# Altium footprint library SM01.PcbLib: 12 footprints
Each footprint in its own frame and in the unit in brackets; x right, y up, seen from the top. Pads: shape width x height; smd on the part's side, far side on the other; paste and mask are expansions set on the pad; w line width, h text height; cw(c..) or ccw(c..) is an arc to the next point about the centre after c.
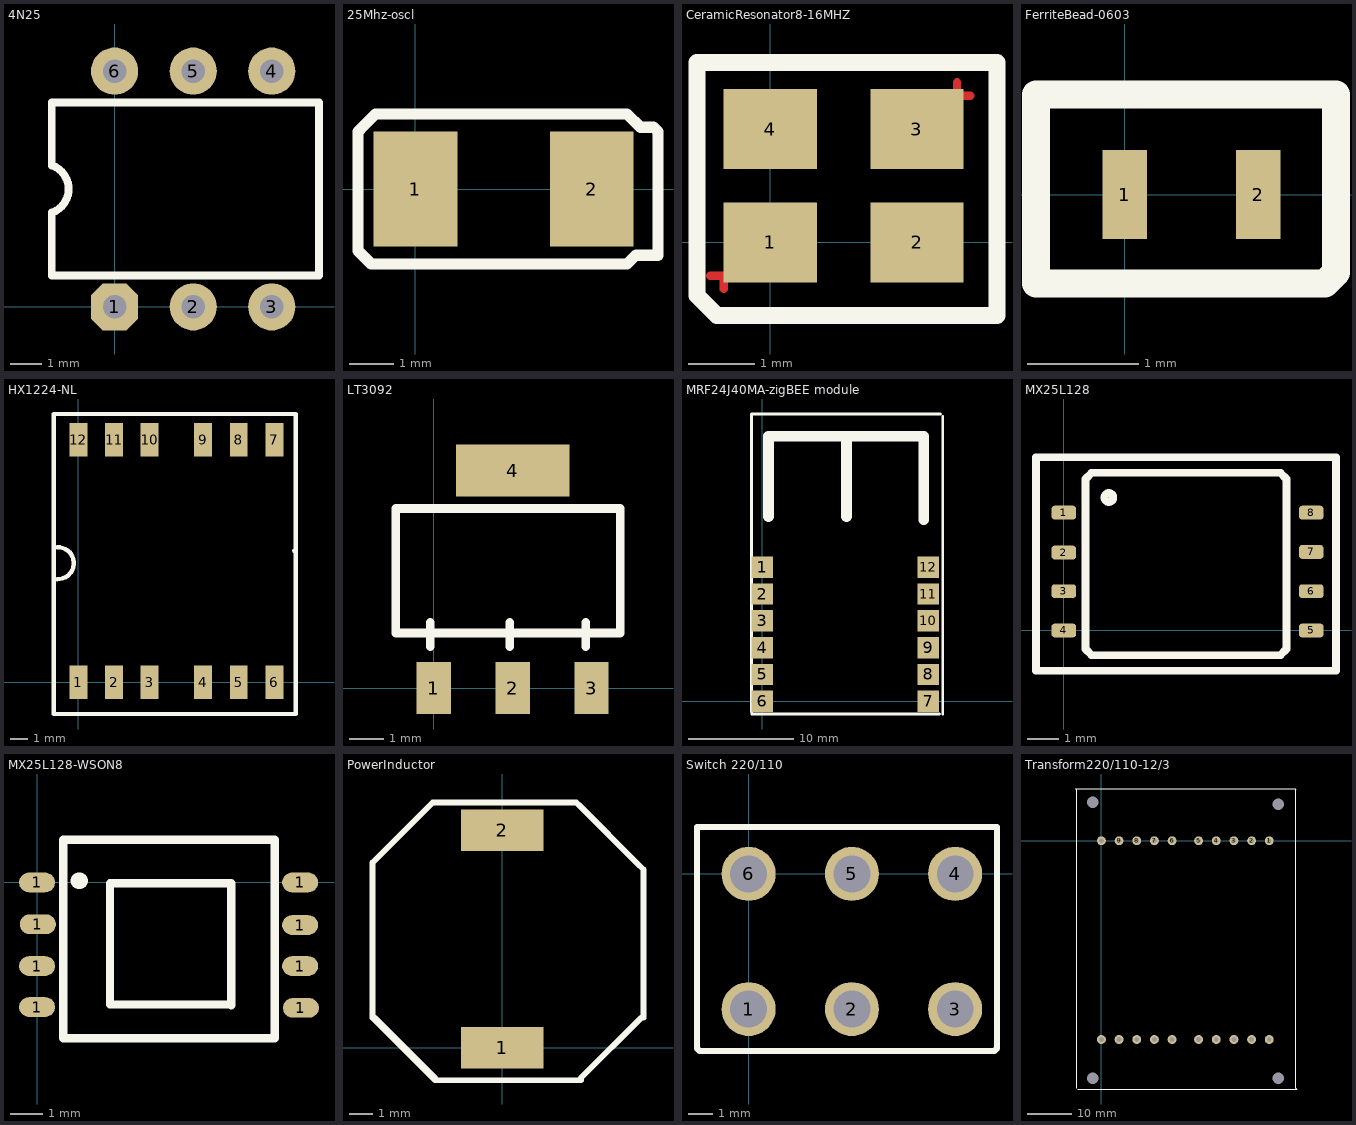
[diagram p0: the footprints below, top view; thin cyan lines are the x and y axes]

## 4N25 [mil]
pads (6):
  oct 60x60 hole 30: 1(0,0)
  round 60 hole 30: 2(100,0) 3(200,0) 4(200,300) 5(100,300) 6(0,300)
Top Overlay:
  lines w10: -80,40 -80,120 ccw(c-90,150) -80,180 -80,260 260,260 260,40 -80,40

## 25Mhz-oscl [mm]
pads (2):
  rect 1.9x2.6 smd: 1(0,0) 2(4,0)
Top Overlay:
  lines w0.254: -1.3,-1.4 -1.3,1.3 -1.25,1.35 -0.9,1.7 4.8,1.7 5.1,1.4 5.4,1.4 5.5,1.3 5.5,-1.5 5,-1.5 4.8,-1.7 -1,-1.7 -1.3,-1.4

## CeramicResonator8-16MHZ [mm]
pads (4):
  rect 1.4x1.2 smd: 1(0,0) 2(2.2,0) 3(2.2,1.7) 4(0,1.7)
Top Layer:
  lines w0.127: -0.9,-0.5 -0.7,-0.5 -0.7,-0.7 ; 2.8,2.4 2.8,2.2 3,2.2 ; -0.7,-0.7 -0.7,-0.7
Top Overlay:
  lines w0.254: -1.1,-0.8 -0.8,-1.1 3.4,-1.1 3.4,2.7 -1.1,2.7 -1.1,1.2 -1.1,0.2 -1.1,-0.8

## FerriteBead-0603 [mm]
pads (2):
  rect 0.4x0.8 all layers, no hole: 1(0,0) 2(1.2,0)
Top Overlay:
  lines w0.254: 1.9,0.9 1.9,-0.7 1.8,-0.8 -0.8,-0.8 -0.8,-0.7 -0.8,0.9 1.9,0.9 ; 1.9,0.9 1.9,0.9

## HX1224-NL [mil] "Pulse trans"
pads (12):
  rect 40x75 smd: 1(0,0) 2(80,0) 3(160,0) 4(280,0) 5(360,0) 6(440,0) 7(440,545) 8(360,545) 9(280,545) 10(160,545) 11(80,545) 12(0,545)
Top Overlay:
  lines w10: -47.31,231.85 ccw(c-45.69,267.5) -47.24,303.15 ; 484.25,295.28 488.19,291.34 ; -55.12,-70.87 488.19,-70.87 488.19,602.36 -55.12,602.36 -55.12,-70.87

## LT3092 [mil]
pads (4):
  rect 39x59 all layers, no hole: 1(0,0) 2(90,0) 3(180,0)
  rect 129x59 all layers, no hole: 4(90,248)
Top Overlay:
  lines w10: -3.94,47.24 -3.94,74.8 ; 86.61,47.24 86.61,74.8 ; 173.23,47.24 173.23,74.8 ; -43.31,62.99 -43.31,204.72 212.6,204.72 212.6,62.99 -43.31,62.99

## MRF24J40MA-zigBEE module [mil]
pads (12):
  rect 80x80 smd: 1(0,500) 2(0,400) 3(0,300) 4(0,200) 5(0,100) 6(0,0) 7(620,0) 8(620,100) 9(620,200) 10(620,300) 11(620,400) 12(620,500)
Top Overlay:
  lines w10: -39.37,-39.13 -39.37,1070.87 ; -38.58,-47.24 661.42,-47.24 ; -34.65,1070.87 665.35,1070.87 ; 673.23,-47.01 673.23,1062.99
  lines w40: 23.62,688.98 23.62,988.19 602.36,988.19 602.36,972.44 602.36,677.17 ; 314.96,688.98 314.96,984.25

## MX25L128 [mm] "epprom marcronix"
pads (8):
  rrect50% 0.8x0.45 smd: 1(0,3.81) 2(0,2.52) 3(0,1.27) 4(0,0) 5(8,0) 6(8,1.27) 7(8,2.54) 8(8,3.81)
Top Overlay:
  circle w0.254: c1.459,4.3 r0.141
  lines w0.254: -0.9,-1.3 -0.9,5.6 8.8,5.6 8.8,-1.3 8.4,-1.3 -0.9,-1.3 ; 0.7,-0.6 0.7,4.9 0.9,5.1 7,5.1 7.2,4.9 7.2,-0.6 7,-0.8 0.9,-0.8 0.7,-0.6

## MX25L128-WSON8 [mm]
pads (8):
  oval 1.1x0.6 all layers, no hole: 1(0,-3.8) 1(0,-2.55) 1(0,0) 1(0.025,-1.275) 1(8.025,-2.55) 1(8.025,-1.3) 1(8.025,0) 1(8.05,-3.825)
Top Overlay:
  lines w0.254: 0.8,-4.75 0.8,1.3 7.25,1.3 7.25,-4.75 4.625,-4.75 0.8,-4.75 ; 2.225,-3.725 5.9,-3.725 5.925,-3.75 5.925,-0.025 2.225,-0.025 2.225,-3.725
  lines w0.5: 1.275,0.05 1.3,0.05

## PowerInductor [mm]
pads (2):
  rect 3.56x1.78 all layers, no hole: 1(0,0) 2(0,9.4)
Top Overlay:
  lines w0.254: -5.5,1.3 -2.9,-1.3 ; 3.3,10.5 5.9,7.9 ; 3.4,-1.4 -2.9,-1.4 -5.6,1.3 -5.6,8 ; 3.4,-1.3 6,1.3 ; 6.1,1.3 6.1,7.7 3.2,10.6 -3,10.6 ; -5.6,8 -3,10.6 ; -5.6,8 -3,10.6

## Switch 220/110 [mm]
pads (6):
  round 2.2 hole 1.5: 1(0,-5.5) 2(4.2,-5.5) 3(8.4,-5.5) 4(8.4,0) 5(4.2,0) 6(0,0)
Top Overlay:
  lines w0.254: -2.1,-7.1 -2.1,1.9 10.1,1.9 10.1,-7.1 10,-7.2 -2,-7.2 -2.1,-7.1

## Transform220/110-12/3 [mm]
pads (24):
  round 1.524 hole 2.6: 1(-2,-53.75) 1(-2,8.75) 1(40,-53.75) 1(40,8.25)
  round 2 hole 1.1: 1(38,0) 2(34,0) 3(30,0) 4(26,0) 5(22,0) 6(16,0) 7(12,0) 8(8,0) 9(4,0) 10(0,0) 11(0,-45) 12(4,-45) 13(8,-45) 14(12,-45) 15(16,-45) 16(22,-45) 17(26,-45) 18(30,-45) 19(34,-45) 20(38,-45)
Top Overlay:
  lines w0.254: -5.9,11.7 43.9,11.7 44,11.6 44,-56 44.2,-56.2 -5.4,-56.2 ; -5.6,-56 -5.6,11.7